# EAGLE library part M30 (library NSL_Tracker-1.2)
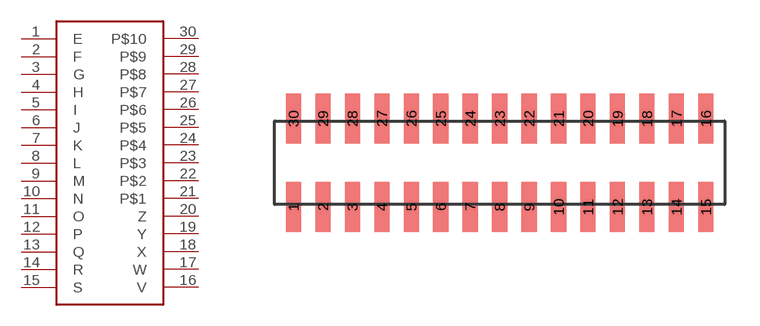
[diagram p4: symbol with the pads of M50-2X15; footprint M50-2X15]

Designator prefix -

## M30  [M50-2X15]
1  E
2  F
3  G
4  H
5  I
6  J
7  K
8  L
9  M
10  N
11  O
12  P
13  Q
14  R
15  S
16  V
17  W
18  X
19  Y
20  Z
21  P$1
22  P$2
23  P$3
24  P$4
25  P$5
26  P$6
27  P$7
28  P$8
29  P$9
30  P$10

## Footprint M50-2X15 (pad centres in mm)
smd 0.65 x 2.15: 1 -8.89,-1.905; 2 -7.62,-1.905; 3 -6.35,-1.905; 4 -5.08,-1.905; 5 -3.81,-1.905; 6 -2.54,-1.905; 7 -1.27,-1.905; 8 0,-1.905; 9 1.27,-1.905; 10 2.54,-1.905; 11 3.81,-1.905; 12 5.08,-1.905; 13 6.35,-1.905; 14 7.62,-1.905; 15 8.89,-1.905; 16 8.89,1.905; 17 7.62,1.905; 18 6.35,1.905; 19 5.08,1.905; 20 3.81,1.905; 21 2.54,1.905; 22 1.27,1.905; 23 0,1.905; 24 -1.27,1.905; 25 -2.54,1.905; 26 -3.81,1.905; 27 -5.08,1.905; 28 -6.35,1.905; 29 -7.62,1.905; 30 -8.89,1.905